# EAGLE library part GY-521 (library Richard_Boards)
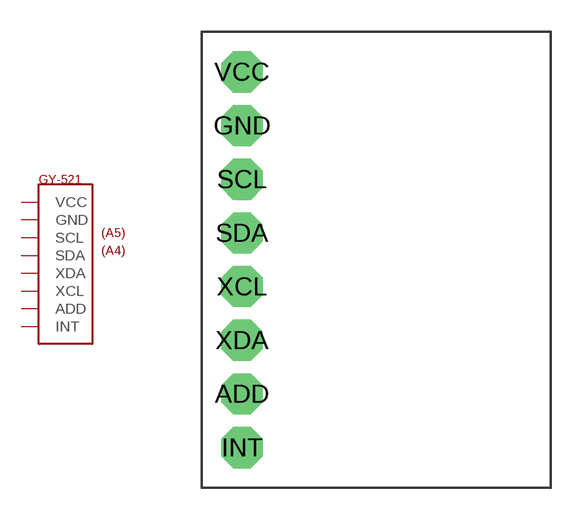
[diagram p1: symbol with the pads of GY-521; footprint GY-521]

Designator prefix -

## GY-521  [GY-521]
ADD  ADD  pas
GND  GND  pas
INT  INT  pas
SCL  SCL  pas
SDA  SDA  pas
VCC  VCC  pas
XCL  XCL  pas
XDA  XDA  pas

## Footprint GY-521 (pad centres in mm)
drill 1.3 octagon: ADD -1.27,-6.35; GND -1.27,6.35; INT -1.27,-8.89; SCL -1.27,3.81; SDA -1.27,1.27; VCC -1.27,8.89; XCL -1.27,-1.27; XDA -1.27,-3.81